# EAGLE library part DS10BR150TSD/NOPB (library ds_ic_peripherals)
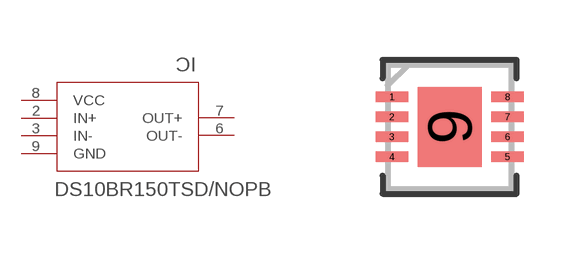
[diagram p68: symbol with the pads of SDA08A_TEX; footprint SDA08A_TEX]

Designator prefix IC

## DS10BR150TSD/NOPB (COPYRIGHT: Copyright (C) 2025 Ultra Librarian. All rights reserved.; MANUFACTURER_PART_NUMBER: DS10BR150TSD/NOPB; MFR_NAME: Texas Instruments)  [SDA08A_TEX]
2  IN+  in
3  IN-  in
6  OUT-  out
7  OUT+  out
8  VCC  pwr
9  GND  pwr

## Footprint SDA08A_TEX (pad centres in mm)
smd 0.813 x 0.254: 1 -1.448,0.75; 2 -1.448,0.25; 3 -1.448,-0.25; 4 -1.448,-0.75; 5 1.448,-0.75; 6 1.448,-0.25; 7 1.448,0.25; 8 1.448,0.75
smd 1.6 x 2: 9 0,0